# EAGLE library part SN75172 (library 1A-meinLib)
Quadruple differenrial Line Driver, EIA/TIA-422-B, RS-485, 4 megaBaud
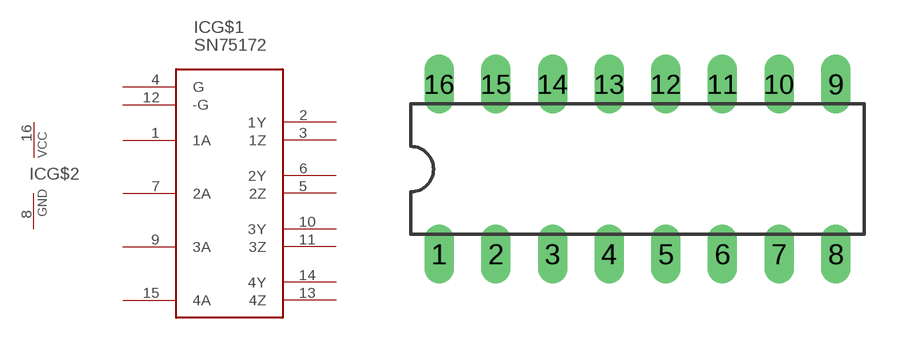
[diagram p36: symbol with the pads of DIL16; footprint DIL16]

Designator prefix IC; gates G$1=SN75172 G$2=PWRN

## SN75172  [DIL16]
1  G$1:1A  in
2  G$1:1Y  hiz
3  G$1:1Z  hiz
4  G$1:G  in
5  G$1:2Z  hiz
6  G$1:2Y  hiz
7  G$1:2A  in
8  G$2:GND  pwr
9  G$1:3A  in
10  G$1:3Y  hiz
11  G$1:3Z  hiz
12  G$1:-G  in
13  G$1:4Z  hiz
14  G$1:4Y  hiz
15  G$1:4A  in
16  G$2:VCC  pwr

## Footprint DIL16 (pad centres in mm)
Dual In Line Package
drill 0.813 long: 1 -8.89,-3.81; 2 -6.35,-3.81; 3 -3.81,-3.81; 4 -1.27,-3.81; 5 1.27,-3.81; 6 3.81,-3.81; 7 6.35,-3.81; 8 8.89,-3.81; 9 8.89,3.81; 10 6.35,3.81; 11 3.81,3.81; 12 1.27,3.81; 13 -1.27,3.81; 14 -3.81,3.81; 15 -6.35,3.81; 16 -8.89,3.81